# Altium schematic symbol library LM4040DIM3-2.5.Schlib: 1 symbol
Pins are listed as number, name and electrical type; pins without a type are passive.

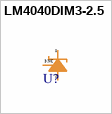
[diagram p0: symbol LM4040DIM3-2.5]

## LM4040DIM3-2.5
designator U?
Precision Micropower Shunt Voltage Reference 2.5V
pins: 1, 2, 3
text: 3 NC